# Altium schematic symbol library mzwlib.SchLib: 24 symbols
Pins are listed as number, name and electrical type; pins without a type are passive.

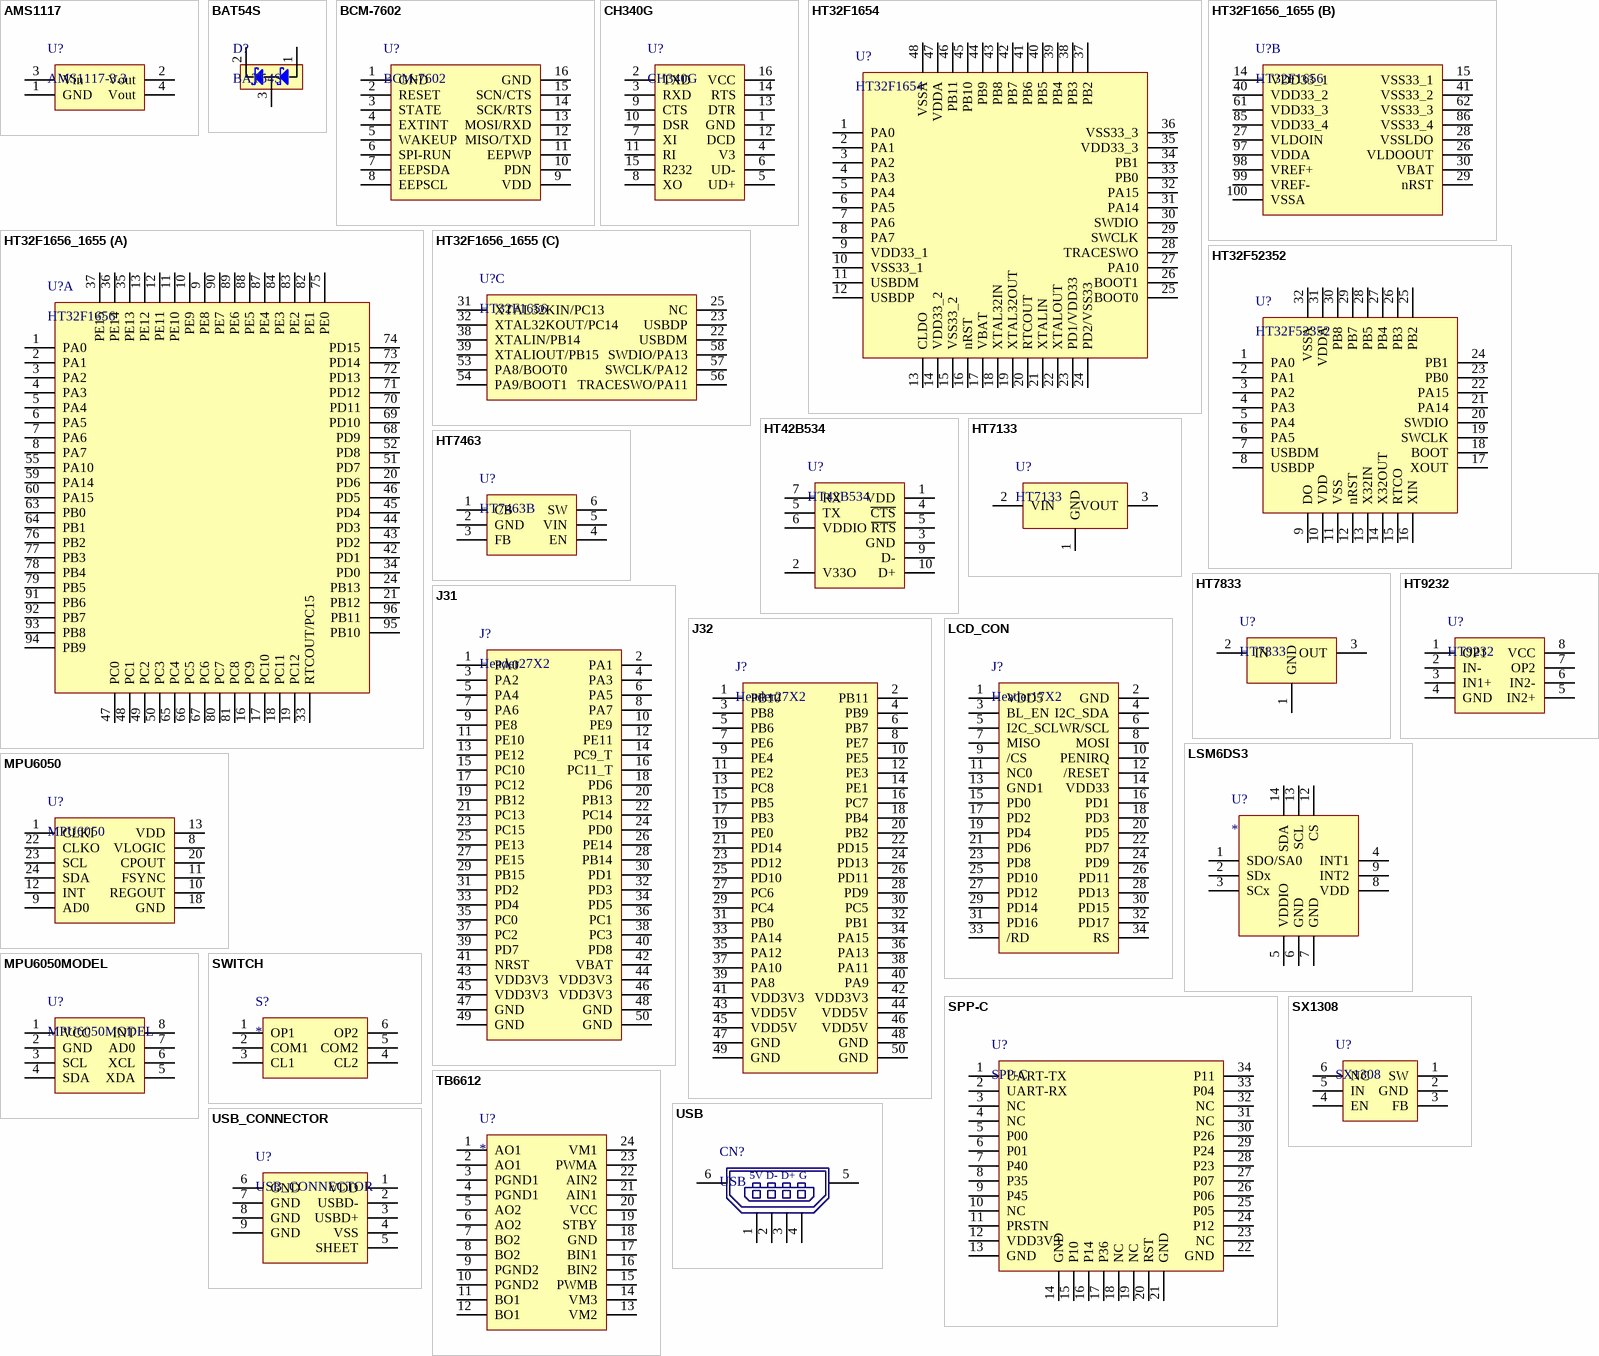
[diagram p0: symbols AMS1117 to USB_CONNECTOR]

## AMS1117
designator U?, comment AMS1117-3.3
pins: 1 GND, 2 Vout, 3 Vin, 4 Vout
1 alternate drawing of the same symbol

## BAT54S
designator D?
pins: 1, 2, 3

## BCM-7602
designator U?
pins: 1 GND, 2 RESET, 3 STATE, 4 EXTINT, 5 WAKEUP, 6 SPI-RUN, 7 EEPSDA, 8 EEPSCL, 9 VDD, 10 PDN, 11 EEPWP, 12 MISO/TXD, 13 MOSI/RXD, 14 SCK/RTS, 15 SCN/CTS, 16 GND

## CH340G
designator U?
pins: 1 GND, 2 TXD, 3 RXD, 4 V3, 5 UD+, 6 UD-, 7 XI, 8 XO, 9 CTS, 10 DSR, 11 RI, 12 DCD, 13 DTR, 14 RTS, 15 R232, 16 VCC

## HT32F1654
designator U?
pins: 1 PA0, 2 PA1, 3 PA2, 4 PA3, 5 PA4, 6 PA5, 7 PA6, 8 PA7, 9 VDD33_1, 10 VSS33_1, 11 USBDM, 12 USBDP, 13 CLDO, 14 VDD33_2, 15 VSS33_2, 16 nRST, 17 VBAT, 18 XTAL32IN, 19 XTAL32OUT, 20 RTCOUT, 21 XTALIN, 22 XTALOUT, 23 PD1/VDD33, 24 PD2/VSS33, 25 BOOT0, 26 BOOT1, 27 PA10, 28 TRACESWO, 29 SWCLK, 30 SWDIO, 31 PA14, 32 PA15, 33 PB0, 34 PB1, 35 VDD33_3, 36 VSS33_3, 37 PB2, 38 PB3, 39 PB4, 40 PB5, 41 PB6, 42 PB7, 43 PB8, 44 PB9, 45 PB10, 46 PB11, 47 VDDA, 48 VSSA

## HT32F1656_1655
designator U?, comment HT32F1656
part A pins: 1 PA0, 2 PA1, 3 PA2, 4 PA3, 5 PA4, 6 PA5, 7 PA6, 8 PA7, 9 PE8, 10 PE9, 11 PE10, 12 PE11, 13 PE12, 16 PC9, 17 PC10, 18 PC11, 19 PC12, 20 PD6, 21 PB12, 24 PB13, 33 RTCOUT/PC15, 34 PD0, 35 PE13, 36 PE14, 37 PE15, 42 PD1, 43 PD2, 44 PD3, 45 PD4, 46 PD5, 47 PC0, 48 PC1, 49 PC2, 50 PC3, 51 PD7, 52 PD8, 55 PA10, 59 PA14, 60 PA15, 63 PB0, 64 PB1, 65 PC4, 66 PC5, 67 PC6, 68 PD9, 69 PD10, 70 PD11, 71 PD12, 72 PD13, 73 PD14, 74 PD15, 75 PE0, 76 PB2, 77 PB3, 78 PB4, 79 PB5, 80 PC7, 81 PC8, 82 PE1, 83 PE2, 84 PE3, 87 PE4, 88 PE5, 89 PE6, 90 PE7, 91 PB6, 92 PB7, 93 PB8, 94 PB9, 95 PB10, 96 PB11
part B pins: 14 VDD33_1, 15 VSS33_1, 26 VLDOOUT, 27 VLDOIN, 28 VSSLDO, 29 nRST, 30 VBAT, 40 VDD33_2, 41 VSS33_2, 61 VDD33_3, 62 VSS33_3, 85 VDD33_4, 86 VSS33_4, 97 VDDA, 98 VREF+, 99 VREF-, 100 VSSA
part C pins: 22 USBDM, 23 USBDP, 25 NC, 31 XTAL32KIN/PC13, 32 XTAL32KOUT/PC14, 38 XTALIN/PB14, 39 XTALIOUT/PB15, 53 PA8/BOOT0, 54 PA9/BOOT1, 56 TRACESWO/PA11, 57 SWCLK/PA12, 58 SWDIO/PA13

## HT32F52352
designator U?
pins: 1 PA0, 2 PA1, 3 PA2, 4 PA3, 5 PA4, 6 PA5, 7 USBDM, 8 USBDP, 9 DO, 10 VDD, 11 VSS, 12 nRST, 13 X32IN, 14 X32OUT, 15 RTCO, 16 XIN, 17 XOUT, 18 BOOT, 19 SWCLK, 20 SWDIO, 21 PA14, 22 PA15, 23 PB0, 24 PB1, 25 PB2, 26 PB3, 27 PB4, 28 PB5, 29 PB7, 30 PB8, 31 VDDA, 32 VSSA

## HT42B534
designator U?
pins: 1 VDD, 2 V33O, 3 GND, 4 ~{CTS}, 5 ~{RTS}, 5 TX, 6 VDDIO, 7 RX, 9 D-, 10 D+

## HT7133
designator U?
pins: 1 GND, 2 VIN, 3 VOUT

## HT7463
designator U?, comment HT7463B
pins: 1 CB, 2 GND, 3 FB, 4 EN, 5 VIN, 6 SW

## HT7833
designator U?
pins: 1 GND, 2 IN, 3 OUT

## HT9232
designator U?
pins: 1 OP1, 2 IN-, 3 IN1+, 4 GND, 5 IN2+, 6 IN2-, 7 OP2, 8 VCC

## J31
designator J?, comment Header27X2
pins: 1 PA0, 2 PA1, 3 PA2, 4 PA3, 5 PA4, 6 PA5, 7 PA6, 8 PA7, 9 PE8, 10 PE9, 11 PE10, 12 PE11, 13 PE12, 14 PC9_T, 15 PC10, 16 PC11_T, 17 PC12, 18 PD6, 19 PB12, 20 PB13, 21 PC13, 22 PC14, 23 PC15, 24 PD0, 25 PE13, 26 PE14, 27 PE15, 28 PB14, 29 PB15, 30 PD1, 31 PD2, 32 PD3, 33 PD4, 34 PD5, 35 PC0, 36 PC1, 37 PC2, 38 PC3, 39 PD7, 40 PD8, 41 NRST, 42 VBAT, 43 VDD3V3, 44 VDD3V3, 45 VDD3V3, 46 VDD3V3, 47 GND, 48 GND, 49 GND, 50 GND

## J32
designator J?, comment Header27X2
pins: 1 PB10, 2 PB11, 3 PB8, 4 PB9, 5 PB6, 6 PB7, 7 PE6, 8 PE7, 9 PE4, 10 PE5, 11 PE2, 12 PE3, 13 PC8, 14 PE1, 15 PB5, 16 PC7, 17 PB3, 18 PB4, 19 PE0, 20 PB2, 21 PD14, 22 PD15, 23 PD12, 24 PD13, 25 PD10, 26 PD11, 27 PC6, 28 PD9, 29 PC4, 30 PC5, 31 PB0, 32 PB1, 33 PA14, 34 PA15, 35 PA12, 36 PA13, 37 PA10, 38 PA11, 39 PA8, 40 PA9, 41 VDD3V3, 42 VDD3V3, 43 VDD5V, 44 VDD5V, 45 VDD5V, 46 VDD5V, 47 GND, 48 GND, 49 GND, 50 GND

## LCD_CON
designator J?, comment Header17X2
pins: 1 VDD5, 2 GND, 3 BL_EN, 4 I2C_SDA, 5 I2C_SCL, 6 WR/SCL, 7 MISO, 8 MOSI, 9 /CS, 10 PENIRQ, 11 NC0, 12 /RESET, 13 GND1, 14 VDD33, 15 PD0, 16 PD1, 17 PD2, 18 PD3, 19 PD4, 20 PD5, 21 PD6, 22 PD7, 23 PD8, 24 PD9, 25 PD10, 26 PD11, 27 PD12, 28 PD13, 29 PD14, 30 PD15, 31 PD16, 32 PD17, 33 /RD, 34 RS

## LSM6DS3
designator U?
pins: 1 SDO/SA0, 2 SDx, 3 SCx, 4 INT1, 5 VDDIO, 6 GND, 7 GND, 8 VDD, 9 INT2, 10 NC hidden, 11 NC hidden, 12 CS, 13 SCL, 14 SDA

## MPU6050
designator U?
pins: 1 CLKI, 2 NC hidden, 3 NC hidden, 4 NC hidden, 5 NC hidden, 6 XDA hidden, 7 XCL hidden, 8 VLOGIC, 9 AD0, 10 REGOUT, 11 FSYNC, 12 INT, 13 VDD, 14 NC hidden, 15 NC hidden, 16 NC hidden, 17 NC hidden, 18 GND, 19 RESV hidden, 20 CPOUT, 21 RESV hidden, 22 CLKO, 23 SCL, 24 SDA

## MPU6050MODEL
designator U?
pins: 1 VCC, 2 GND, 3 SCL, 4 SDA, 5 XDA, 6 XCL, 7 AD0, 8 INT

## SPP-C
designator U?
pins: 1 UART-TX, 2 UART-RX, 3 NC, 4 NC, 5 P00, 6 P01, 7 P40, 8 P35, 9 P45, 10 NC, 11 PRSTN, 12 VDD3V3, 13 GND, 14 GND, 15 P10, 16 P14, 17 P36, 18 NC, 19 NC, 20 RST, 21 GND, 22 GND, 23 NC, 24 P12, 25 P05, 26 P06, 27 P07, 28 P23, 29 P24, 30 P26, 31 NC, 32 NC, 33 P04, 34 P11

## SWITCH
designator S?
pins: 1 OP1, 2 COM1, 3 CL1, 4 CL2, 5 COM2, 6 OP2

## SX1308
designator U?
pins: 1 SW, 2 GND, 3 FB, 4 EN, 5 IN, 6 NC

## TB6612
designator U?
pins: 1 AO1, 2 AO1, 3 PGND1, 4 PGND1, 5 AO2, 6 AO2, 7 BO2, 8 BO2, 9 PGND2, 10 PGND2, 11 BO1, 12 BO1, 13 VM2, 14 VM3, 15 PWMB, 16 BIN2, 17 BIN1, 18 GND, 19 STBY, 20 VCC, 21 AIN1, 22 AIN2, 23 PWMA, 24 VM1

## USB
designator CN?
pins: 1, 2 1, 3 2, 4 3, 5, 6
text: 5V; D-; D+; G

## USB_CONNECTOR
designator U?
pins: 1 VDD, 2 USBD-, 3 USBD+, 4 VSS, 5 SHEET, 6 GND, 7 GND, 8 GND, 9 GND